# Altium footprint library CC2510F16RHHR.PcbLib: 3 footprints
Each footprint in its own frame and in the unit in brackets; x right, y up, seen from the top. Pads: shape width x height; smd on the part's side, far side on the other; paste and mask are expansions set on the pad; w line width, h text height; cw(c..) or ccw(c..) is an arc to the next point about the centre after c.
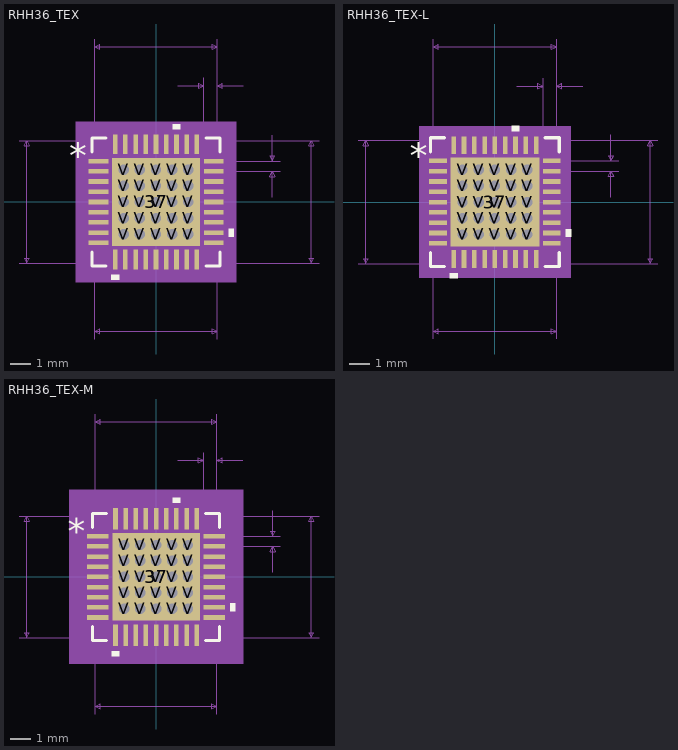
[diagram p0: the footprints below, top view; thin cyan lines are the x and y axes]

## RHH36_TEX [mil]
pads (62):
  rect 37.81x8.85 smd paste+0 mask+0: 1(-110.91,78.74) 2(-110.91,59.06) 3(-110.91,39.37) 4(-110.91,19.68) 5(-110.91,0) 6(-110.91,-19.68) 7(-110.91,-39.37) 8(-110.91,-59.06) 9(-110.91,-78.74) 19(110.91,-78.74) 20(110.91,-59.06) 21(110.91,-39.37) 22(110.91,-19.68) 23(110.91,0) 24(110.91,19.68) 25(110.91,39.37) 26(110.91,59.06) 27(110.91,78.74)
  rect 8.85x37.81 smd paste+0 mask+0: 10(-78.74,-110.91) 11(-59.06,-110.91) 12(-39.37,-110.91) 13(-19.68,-110.91) 14(0,-110.91) 15(19.68,-110.91) 16(39.37,-110.91) 17(59.06,-110.91) 18(78.74,-110.91) 28(78.74,110.91) 29(59.06,110.91) 30(39.37,110.91) 31(19.68,110.91) 32(0,110.91) 33(-19.68,110.91) 34(-39.37,110.91) 35(-59.06,110.91) 36(-78.74,110.91)
  rect 170x170 smd paste-84.5 mask-84.5: 37(0,0)
  round 40 hole 20: V(-62,-62) V(-62,-31) V(-62,0) V(-62,31) V(-62,62) V(-31,-62) V(-31,-31) V(-31,0) V(-31,31) V(-31,62) V(0,-62) V(0,-31) V(0,0) V(0,31) V(0,62) V(31,-62) V(31,-31) V(31,0) V(31,31) V(31,62) V(62,-62) V(62,-31) V(62,0) V(62,31) V(62,62)
Top Overlay:
  region: -71.24,-139.81 -86.24,-139.81 -86.24,-149.81 -71.24,-149.81
  region: 139.81,-51.56 149.81,-51.56 149.81,-66.56 139.81,-66.56
  region: 46.87,139.81 31.87,139.81 31.87,149.81 46.87,149.81
  lines w6: -123,-96.27 -123,-123 -96.27,-123 ; -123,96.27 -123,123 -96.27,123 ; 96.27,-123 123,-123 123,-96.27 ; 96.27,123 123,123 123,96.27
  text "*" at -167.31,63.58 h50
Top Paste:
  drawing of 36 lines, arcs and shapes, not listed
Top Solder:
  region: -87.5,69.87 -87.5,87.5 87.5,87.5 87.5,69.87
  region: -87.5,38.87 -87.5,54.13 87.5,54.13 87.5,38.87
  region: -87.5,7.87 -87.5,23.13 87.5,23.13 87.5,7.87
  region: -87.5,-23.13 -87.5,-7.87 87.5,-7.87 87.5,-23.13
  region: -87.5,-54.13 -87.5,-38.87 87.5,-38.87 87.5,-54.13
  region: -87.5,-87.5 -87.5,-69.87 87.5,-69.87 87.5,-87.5
  region: -87.5,-87.5 -87.5,87.5 -69.87,87.5 -69.87,-87.5
  region: -38.87,-87.5 -38.87,87.5 -54.13,87.5 -54.13,-87.5
  region: -7.87,-87.5 -7.87,87.5 -23.13,87.5 -23.13,-87.5
  region: 23.13,-87.5 23.13,87.5 7.87,87.5 7.87,-87.5
  region: 54.13,-87.5 54.13,87.5 38.87,87.5 38.87,-87.5
  region: 69.87,-87.5 69.87,87.5 87.5,87.5 87.5,-87.5
Mechanical 5:
  region: 154.81,-154.81 -154.81,-154.81 -154.81,154.81 154.81,154.81
Mechanical 7:
  lines w1: -263.91,-118 118,-118 ; -263.91,118 118,118 118,-263.91 ; -118,-263.91 -118,118 ; -118,78.74 -118,313.91 ; 42,223.91 92,223.91 ; 78.74,-118 313.91,-118 ; 78.74,118 313.91,118 ; 92,78.74 92,238.91 ; 110.91,59.06 238.91,59.06 ; 110.91,78.74 238.91,78.74 ; 118,238.91 118,78.74 118,313.91 ; 168,223.91 118,223.91 ; 223.91,9.06 223.91,59.06 ; 223.91,128.74 223.91,78.74 ; -248.91,-118 -248.91,118 ; -248.91,-118 -253.91,-108 -243.91,-108 -248.91,-118 ; -248.91,118 -253.91,108 -243.91,108 -248.91,118 ; -118,-248.91 118,-248.91 ; -118,-248.91 -108,-243.91 -108,-253.91 -118,-248.91 ; -118,298.91 118,298.91 ; -118,298.91 -108,303.91 -108,293.91 -118,298.91 ; 92,223.91 82,228.91 82,218.91 92,223.91 ; 118,-248.91 108,-243.91 108,-253.91 118,-248.91 ; 118,223.91 128,228.91 128,218.91 118,223.91 ; 118,298.91 108,303.91 108,293.91 118,298.91 ; 223.91,59.06 218.91,49.06 228.91,49.06 223.91,59.06 ; 223.91,78.74 218.91,88.74 228.91,88.74 223.91,78.74 ; 298.91,-118 298.91,118 ; 298.91,-118 293.91,-108 303.91,-108 298.91,-118 ; 298.91,118 293.91,108 303.91,108 298.91,118
  text "0.02in/0.5mm" at 243.91,56.4 h25
  text "0.026in/0.66mm" at 17.5,243.91 h25
  text "0.236in/5.994mm" at -93.75,318.91 h25
  text "0.236in/5.994mm" at 318.91,-12.5 h25
  text "0.236in/5.994mm" at -456.41,-12.5 h25
  text "0.236in/5.994mm" at -93.75,-293.91 h25
Mechanical 13:
  lines w1: -118,68 -68,118 ; -118,-118 118,-118 118,118 -118,118 -118,-118 ; -118,-84.74 -118,-72.74 -118,-84.74 ; -118,-65.06 -118,-53.06 -118,-65.06 ; -118,-45.37 -118,-33.37 -118,-45.37 ; -118,-25.68 -118,-13.69 -118,-25.68 ; -118,-6 -118,6 -118,-6 ; -118,13.69 -118,25.68 -118,13.69 ; -118,33.37 -118,45.37 -118,33.37 ; -118,53.06 -118,65.06 -118,53.06 ; -118,72.74 -118,84.74 -118,72.74 ; -84.74,-118 -72.74,-118 -84.74,-118 ; -84.74,118 -72.74,118 -84.74,118 ; -65.06,-118 -53.06,-118 -65.06,-118 ; -65.06,118 -53.06,118 -65.06,118 ; -45.37,-118 -33.37,-118 -45.37,-118 ; -45.37,118 -33.37,118 -45.37,118 ; -25.68,-118 -13.69,-118 -25.68,-118 ; -25.68,118 -13.69,118 -25.68,118 ; -6,-118 6,-118 -6,-118 ; -6,118 6,118 -6,118 ; 13.69,-118 25.68,-118 13.69,-118 ; 13.69,118 25.68,118 13.69,118 ; 33.37,-118 45.37,-118 33.37,-118 ; 33.37,118 45.37,118 33.37,118 ; 53.06,-118 65.06,-118 53.06,-118 ; 53.06,118 65.06,118 53.06,118 ; 72.74,-118 84.74,-118 72.74,-118 ; 72.74,118 84.74,118 72.74,118 ; 118,-84.74 118,-72.74 118,-84.74 ; 118,-65.06 118,-53.06 118,-65.06 ; 118,-45.37 118,-33.37 118,-45.37 ; 118,-25.68 118,-13.69 118,-25.68 ; 118,-6 118,6 118,-6 ; 118,13.69 118,25.68 118,13.69 ; 118,33.37 118,45.37 118,33.37 ; 118,53.06 118,65.06 118,53.06 ; 118,72.74 118,84.74 118,72.74
  text "*" at -104.5,63.58 h50
Mechanical 15:
  region: -93.17,-128 -128,-128 -128,-93.17 -139.81,-93.17 -139.81,93.17 -128,93.17 -128,128 -93.17,128 -93.17,139.81 93.17,139.81 93.17,128 128,128 128,93.17 139.81,93.17 139.81,-93.17 128,-93.17 128,-128 93.17,-128 93.17,-139.81 -93.17,-139.81
  lines w6: -139.81,-93.17 -128,-93.17 -128,-128 -93.17,-128 -93.17,-139.81 93.17,-139.81 93.17,-128 128,-128 128,-93.17 139.81,-93.17 139.81,93.17 128,93.17 128,128 93.17,128 93.17,139.81 -93.17,139.81 -93.17,128 -128,128 -128,93.17 -139.81,93.17 -139.81,-93.17
3D body: height 10, standoff 0, extent 0,0 10,10

## RHH36_TEX-L [mil]
pads (62):
  rect 33.87x8.85 smd paste+0 mask+0: 1(-108.94,78.74) 2(-108.94,59.06) 3(-108.94,39.37) 4(-108.94,19.68) 5(-108.94,0) 6(-108.94,-19.68) 7(-108.94,-39.37) 8(-108.94,-59.06) 9(-108.94,-78.74) 19(108.94,-78.74) 20(108.94,-59.06) 21(108.94,-39.37) 22(108.94,-19.68) 23(108.94,0) 24(108.94,19.68) 25(108.94,39.37) 26(108.94,59.06) 27(108.94,78.74)
  rect 8.85x33.87 smd paste+0 mask+0: 10(-78.74,-108.94) 11(-59.06,-108.94) 12(-39.37,-108.94) 13(-19.68,-108.94) 14(0,-108.94) 15(19.68,-108.94) 16(39.37,-108.94) 17(59.06,-108.94) 18(78.74,-108.94) 28(78.74,108.94) 29(59.06,108.94) 30(39.37,108.94) 31(19.68,108.94) 32(0,108.94) 33(-19.68,108.94) 34(-39.37,108.94) 35(-59.06,108.94) 36(-78.74,108.94)
  rect 170x170 smd paste-84.5 mask-84.5: 37(0,0)
  round 40 hole 20: V(-62,-62) V(-62,-31) V(-62,0) V(-62,31) V(-62,62) V(-31,-62) V(-31,-31) V(-31,0) V(-31,31) V(-31,62) V(0,-62) V(0,-31) V(0,0) V(0,31) V(0,62) V(31,-62) V(31,-31) V(31,0) V(31,31) V(31,62) V(62,-62) V(62,-31) V(62,0) V(62,31) V(62,62)
Top Overlay:
  region: 46.87,135.87 31.87,135.87 31.87,145.87 46.87,145.87
  region: 135.87,-51.56 145.87,-51.56 145.87,-66.56 135.87,-66.56
  region: -71.24,-135.87 -86.24,-135.87 -86.24,-145.87 -71.24,-145.87
  lines w6: -123,-96.27 -123,-123 -96.27,-123 ; -123,96.27 -123,123 -96.27,123 ; 96.27,-123 123,-123 123,-96.27 ; 96.27,123 123,123 123,96.27
  text "*" at -163.37,63.58 h50
Top Paste:
  drawing of 36 lines, arcs and shapes, not listed
Top Solder:
  region: 69.87,-87.5 69.87,87.5 87.5,87.5 87.5,-87.5
  region: 54.13,-87.5 54.13,87.5 38.87,87.5 38.87,-87.5
  region: 23.13,-87.5 23.13,87.5 7.87,87.5 7.87,-87.5
  region: -7.87,-87.5 -7.87,87.5 -23.13,87.5 -23.13,-87.5
  region: -38.87,-87.5 -38.87,87.5 -54.13,87.5 -54.13,-87.5
  region: -87.5,-87.5 -87.5,87.5 -69.87,87.5 -69.87,-87.5
  region: -87.5,-87.5 -87.5,-69.87 87.5,-69.87 87.5,-87.5
  region: -87.5,-54.13 -87.5,-38.87 87.5,-38.87 87.5,-54.13
  region: -87.5,-23.13 -87.5,-7.87 87.5,-7.87 87.5,-23.13
  region: -87.5,7.87 -87.5,23.13 87.5,23.13 87.5,7.87
  region: -87.5,38.87 -87.5,54.13 87.5,54.13 87.5,38.87
  region: -87.5,69.87 -87.5,87.5 87.5,87.5 87.5,69.87
Mechanical 5:
  region: 144.87,-144.87 -144.87,-144.87 -144.87,144.87 144.87,144.87
Mechanical 7:
  lines w1: -261.94,-118 118,-118 ; -261.94,118 118,118 118,-261.94 ; -118,-261.94 -118,118 ; -118,78.74 -118,311.94 ; 42,221.94 92,221.94 ; 78.74,-118 311.94,-118 ; 78.74,118 311.94,118 ; 92,78.74 92,236.94 ; 108.94,59.06 236.94,59.06 ; 108.94,78.74 236.94,78.74 ; 118,236.94 118,78.74 118,311.94 ; 168,221.94 118,221.94 ; 221.94,9.06 221.94,59.06 ; 221.94,128.74 221.94,78.74 ; -246.94,-118 -241.94,-108 -251.94,-108 -246.94,-118 ; -246.94,-118 -246.94,118 ; -246.94,118 -241.94,108 -251.94,108 -246.94,118 ; -118,-246.94 -108,-251.94 -108,-241.94 -118,-246.94 ; -118,-246.94 118,-246.94 ; -118,296.94 -108,291.94 -108,301.94 -118,296.94 ; -118,296.94 118,296.94 ; 92,221.94 82,216.94 82,226.94 92,221.94 ; 118,-246.94 108,-251.94 108,-241.94 118,-246.94 ; 118,221.94 128,216.94 128,226.94 118,221.94 ; 118,296.94 108,291.94 108,301.94 118,296.94 ; 221.94,59.06 226.94,49.06 216.94,49.06 221.94,59.06 ; 221.94,78.74 226.94,88.74 216.94,88.74 221.94,78.74 ; 296.94,-118 301.94,-108 291.94,-108 296.94,-118 ; 296.94,-118 296.94,118 ; 296.94,118 301.94,108 291.94,108 296.94,118
  text "0.236in/5.994mm" at -93.75,-291.94 h25
  text "0.236in/5.994mm" at -454.44,-12.5 h25
  text "0.236in/5.994mm" at 316.94,-12.5 h25
  text "0.236in/5.994mm" at -93.75,316.94 h25
  text "0.026in/0.66mm" at 17.5,241.94 h25
  text "0.02in/0.5mm" at 241.94,56.4 h25
  text "Alt 2 Padstyle: b229_152h76" at -337.5,-675.87 h50
  text "Alt 1 Padstyle: b152_229h76" at -337.5,-615.87 h50
  text "Via Padstyle: c102h51" at -262.5,-555.87 h50
  text "Heat Tab Padstyle: r432_432" at -337.5,-495.87 h50
  text "Default Padstyle: r22_86" at -300,-435.87 h50
Mechanical 13:
  lines w1: -118,68 -68,118 ; -118,-118 -118,118 118,118 118,-118 -118,-118 ; -118,-84.74 -118,-72.74 -118,-84.74 ; -118,-65.06 -118,-53.06 -118,-65.06 ; -118,-45.37 -118,-33.37 -118,-45.37 ; -118,-25.68 -118,-13.69 -118,-25.68 ; -118,-6 -118,6 -118,-6 ; -118,13.69 -118,25.68 -118,13.69 ; -118,33.37 -118,45.37 -118,33.37 ; -118,53.06 -118,65.06 -118,53.06 ; -118,72.74 -118,84.74 -118,72.74 ; -84.74,-118 -72.74,-118 -84.74,-118 ; -84.74,118 -72.74,118 -84.74,118 ; -65.06,-118 -53.06,-118 -65.06,-118 ; -65.06,118 -53.06,118 -65.06,118 ; -45.37,-118 -33.37,-118 -45.37,-118 ; -45.37,118 -33.37,118 -45.37,118 ; -25.68,-118 -13.69,-118 -25.68,-118 ; -25.68,118 -13.69,118 -25.68,118 ; -6,-118 6,-118 -6,-118 ; -6,118 6,118 -6,118 ; 13.69,-118 25.68,-118 13.69,-118 ; 13.69,118 25.68,118 13.69,118 ; 33.37,-118 45.37,-118 33.37,-118 ; 33.37,118 45.37,118 33.37,118 ; 53.06,-118 65.06,-118 53.06,-118 ; 53.06,118 65.06,118 53.06,118 ; 72.74,-118 84.74,-118 72.74,-118 ; 72.74,118 84.74,118 72.74,118 ; 118,-84.74 118,-72.74 118,-84.74 ; 118,-65.06 118,-53.06 118,-65.06 ; 118,-45.37 118,-33.37 118,-45.37 ; 118,-25.68 118,-13.69 118,-25.68 ; 118,-6 118,6 118,-6 ; 118,13.69 118,25.68 118,13.69 ; 118,33.37 118,45.37 118,33.37 ; 118,53.06 118,65.06 118,53.06 ; 118,72.74 118,84.74 118,72.74
  text "*" at -104.5,63.58 h50
Mechanical 15:
  region: -87.17,-122 -122,-122 -122,-87.17 -129.87,-87.17 -129.87,87.17 -122,87.17 -122,122 -87.17,122 -87.17,129.87 87.17,129.87 87.17,122 122,122 122,87.17 129.87,87.17 129.87,-87.17 122,-87.17 122,-122 87.17,-122 87.17,-129.87 -87.17,-129.87
  lines w6: -129.87,-87.17 -129.87,87.17 -122,87.17 -122,122 -87.17,122 -87.17,129.87 87.17,129.87 87.17,122 122,122 122,87.17 129.87,87.17 129.87,-87.17 122,-87.17 122,-122 87.17,-122 87.17,-129.87 -87.17,-129.87 -87.17,-122 -122,-122 -122,-87.17 -129.87,-87.17
3D body: height 10, standoff 0, extent 0,0 10,10

## RHH36_TEX-M [mil]
pads (62):
  rect 41.75x8.85 smd paste+0 mask+0: 1(-112.87,78.74) 2(-112.87,59.06) 3(-112.87,39.37) 4(-112.87,19.68) 5(-112.87,0) 6(-112.87,-19.68) 7(-112.87,-39.37) 8(-112.87,-59.06) 9(-112.87,-78.74) 19(112.87,-78.74) 20(112.87,-59.06) 21(112.87,-39.37) 22(112.87,-19.68) 23(112.87,0) 24(112.87,19.68) 25(112.87,39.37) 26(112.87,59.06) 27(112.87,78.74)
  rect 8.85x41.75 smd paste+0 mask+0: 10(-78.74,-112.87) 11(-59.06,-112.87) 12(-39.37,-112.87) 13(-19.68,-112.87) 14(0,-112.87) 15(19.68,-112.87) 16(39.37,-112.87) 17(59.06,-112.87) 18(78.74,-112.87) 28(78.74,112.87) 29(59.06,112.87) 30(39.37,112.87) 31(19.68,112.87) 32(0,112.87) 33(-19.68,112.87) 34(-39.37,112.87) 35(-59.06,112.87) 36(-78.74,112.87)
  rect 170x170 smd paste-84.5 mask-84.5: 37(0,0)
  round 40 hole 20: V(-62,-62) V(-62,-31) V(-62,0) V(-62,31) V(-62,62) V(-31,-62) V(-31,-31) V(-31,0) V(-31,31) V(-31,62) V(0,-62) V(0,-31) V(0,0) V(0,31) V(0,62) V(31,-62) V(31,-31) V(31,0) V(31,31) V(31,62) V(62,-62) V(62,-31) V(62,0) V(62,31) V(62,62)
Top Overlay:
  region: -71.24,-143.75 -86.24,-143.75 -86.24,-153.75 -71.24,-153.75
  region: 143.75,-51.56 153.75,-51.56 153.75,-66.56 143.75,-66.56
  region: 46.87,143.75 31.87,143.75 31.87,153.75 46.87,153.75
  lines w6: -123,-96.27 -123,-123 -96.27,-123 ; -123,96.27 -123,123 -96.27,123 ; 96.27,-123 123,-123 123,-96.27 ; 96.27,123 123,123 123,96.27
  text "*" at -171.25,63.58 h50
Top Paste:
  drawing of 36 lines, arcs and shapes, not listed
Top Solder:
  region: -87.5,69.87 -87.5,87.5 87.5,87.5 87.5,69.87
  region: -87.5,38.87 -87.5,54.13 87.5,54.13 87.5,38.87
  region: -87.5,7.87 -87.5,23.13 87.5,23.13 87.5,7.87
  region: -87.5,-23.13 -87.5,-7.87 87.5,-7.87 87.5,-23.13
  region: -87.5,-54.13 -87.5,-38.87 87.5,-38.87 87.5,-54.13
  region: -87.5,-87.5 -87.5,-69.87 87.5,-69.87 87.5,-87.5
  region: -87.5,-87.5 -87.5,87.5 -69.87,87.5 -69.87,-87.5
  region: -38.87,-87.5 -38.87,87.5 -54.13,87.5 -54.13,-87.5
  region: -7.87,-87.5 -7.87,87.5 -23.13,87.5 -23.13,-87.5
  region: 23.13,-87.5 23.13,87.5 7.87,87.5 7.87,-87.5
  region: 54.13,-87.5 54.13,87.5 38.87,87.5 38.87,-87.5
  region: 69.87,-87.5 69.87,87.5 87.5,87.5 87.5,-87.5
Mechanical 5:
  region: 168.75,-168.75 -168.75,-168.75 -168.75,168.75 168.75,168.75
Mechanical 7:
  lines w1: -265.87,-118 118,-118 ; -265.87,118 118,118 118,-265.87 ; -118,-265.87 -118,118 ; -118,78.74 -118,315.87 ; 42,225.87 92,225.87 ; 78.74,-118 315.87,-118 ; 78.74,118 315.87,118 ; 92,78.74 92,240.87 ; 112.87,59.06 240.87,59.06 ; 112.87,78.74 240.87,78.74 ; 118,240.87 118,78.74 118,315.87 ; 168,225.87 118,225.87 ; 225.87,9.06 225.87,59.06 ; 225.87,128.74 225.87,78.74 ; -250.87,-118 -250.87,118 ; -250.87,-118 -255.87,-108 -245.87,-108 -250.87,-118 ; -250.87,118 -255.87,108 -245.87,108 -250.87,118 ; -118,-250.87 118,-250.87 ; -118,-250.87 -108,-245.87 -108,-255.87 -118,-250.87 ; -118,300.87 118,300.87 ; -118,300.87 -108,305.87 -108,295.87 -118,300.87 ; 92,225.87 82,230.87 82,220.87 92,225.87 ; 118,-250.87 108,-245.87 108,-255.87 118,-250.87 ; 118,225.87 128,230.87 128,220.87 118,225.87 ; 118,300.87 108,305.87 108,295.87 118,300.87 ; 225.87,59.06 220.87,49.06 230.87,49.06 225.87,59.06 ; 225.87,78.74 220.87,88.74 230.87,88.74 225.87,78.74 ; 300.87,-118 300.87,118 ; 300.87,-118 295.87,-108 305.87,-108 300.87,-118 ; 300.87,118 295.87,108 305.87,108 300.87,118
  text "Default Padstyle: r22_106" at -312.5,-443.75 h50
  text "Heat Tab Padstyle: r432_432" at -337.5,-503.75 h50
  text "Via Padstyle: c102h51" at -262.5,-563.75 h50
  text "Alt 1 Padstyle: b152_229h76" at -337.5,-623.75 h50
  text "Alt 2 Padstyle: b229_152h76" at -337.5,-683.75 h50
  text "0.02in/0.5mm" at 245.87,56.4 h25
  text "0.026in/0.66mm" at 17.5,245.87 h25
  text "0.236in/5.994mm" at -93.75,320.87 h25
  text "0.236in/5.994mm" at 320.87,-12.5 h25
  text "0.236in/5.994mm" at -458.37,-12.5 h25
  text "0.236in/5.994mm" at -93.75,-295.87 h25
Mechanical 13:
  lines w1: -118,68 -68,118 ; -118,-118 118,-118 118,118 -118,118 -118,-118 ; -118,-84.74 -118,-72.74 -118,-84.74 ; -118,-65.06 -118,-53.06 -118,-65.06 ; -118,-45.37 -118,-33.37 -118,-45.37 ; -118,-25.68 -118,-13.69 -118,-25.68 ; -118,-6 -118,6 -118,-6 ; -118,13.69 -118,25.68 -118,13.69 ; -118,33.37 -118,45.37 -118,33.37 ; -118,53.06 -118,65.06 -118,53.06 ; -118,72.74 -118,84.74 -118,72.74 ; -84.74,-118 -72.74,-118 -84.74,-118 ; -84.74,118 -72.74,118 -84.74,118 ; -65.06,-118 -53.06,-118 -65.06,-118 ; -65.06,118 -53.06,118 -65.06,118 ; -45.37,-118 -33.37,-118 -45.37,-118 ; -45.37,118 -33.37,118 -45.37,118 ; -25.68,-118 -13.69,-118 -25.68,-118 ; -25.68,118 -13.69,118 -25.68,118 ; -6,-118 6,-118 -6,-118 ; -6,118 6,118 -6,118 ; 13.69,-118 25.68,-118 13.69,-118 ; 13.69,118 25.68,118 13.69,118 ; 33.37,-118 45.37,-118 33.37,-118 ; 33.37,118 45.37,118 33.37,118 ; 53.06,-118 65.06,-118 53.06,-118 ; 53.06,118 65.06,118 53.06,118 ; 72.74,-118 84.74,-118 72.74,-118 ; 72.74,118 84.74,118 72.74,118 ; 118,-84.74 118,-72.74 118,-84.74 ; 118,-65.06 118,-53.06 118,-65.06 ; 118,-45.37 118,-33.37 118,-45.37 ; 118,-25.68 118,-13.69 118,-25.68 ; 118,-6 118,6 118,-6 ; 118,13.69 118,25.68 118,13.69 ; 118,33.37 118,45.37 118,33.37 ; 118,53.06 118,65.06 118,53.06 ; 118,72.74 118,84.74 118,72.74
  text "*" at -104.5,63.58 h50
Mechanical 15:
  region: -103.17,-138 -138,-138 -138,-103.17 -153.75,-103.17 -153.75,103.17 -138,103.17 -138,138 -103.17,138 -103.17,153.75 103.17,153.75 103.17,138 138,138 138,103.17 153.75,103.17 153.75,-103.17 138,-103.17 138,-138 103.17,-138 103.17,-153.75 -103.17,-153.75
  lines w6: -153.75,-103.17 -138,-103.17 -138,-138 -103.17,-138 -103.17,-153.75 103.17,-153.75 103.17,-138 138,-138 138,-103.17 153.75,-103.17 153.75,103.17 138,103.17 138,138 103.17,138 103.17,153.75 -103.17,153.75 -103.17,138 -138,138 -138,103.17 -153.75,103.17 -153.75,-103.17
3D body: height 10, standoff 0, extent 0,0 10,10